# Altium schematic symbol library BZD27C200PWH.SchLib: 1 symbol
Pins are listed as number, name and electrical type; pins without a type are passive.

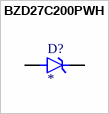
[diagram p0: symbol BZD27C200PWH]

## BZD27C200PWH
designator D?
SOD-123W, 1000mW, 5%, Zener Diode; MP: BZD27C200PWH; MF: Taiwan Semiconductor; Package: SOD-123W-2 Taiwan Semiconductor; Purchase-URL: https://pricing.snapeda.com/search/part/BZD27C200PWH/?ref=eda; Check_prices: https://www.snapeda.com/parts/BZD27C200PWH/Taiwan+Semiconductor/view-part/?ref=eda; Price: None; Availability: In Stock; SnapEDA_Link: https://www.snapeda.com/parts/BZD27C200PWH/Taiwan+Semiconductor/view-part/?ref=snap; Value: *
footprint SODFL3718X102N
pins: A, C K